# Altium integrated library FSC Logic Multivibrator.IntLib: 6 symbols
Pins are listed as number, name and electrical type; pins without a type are passive.

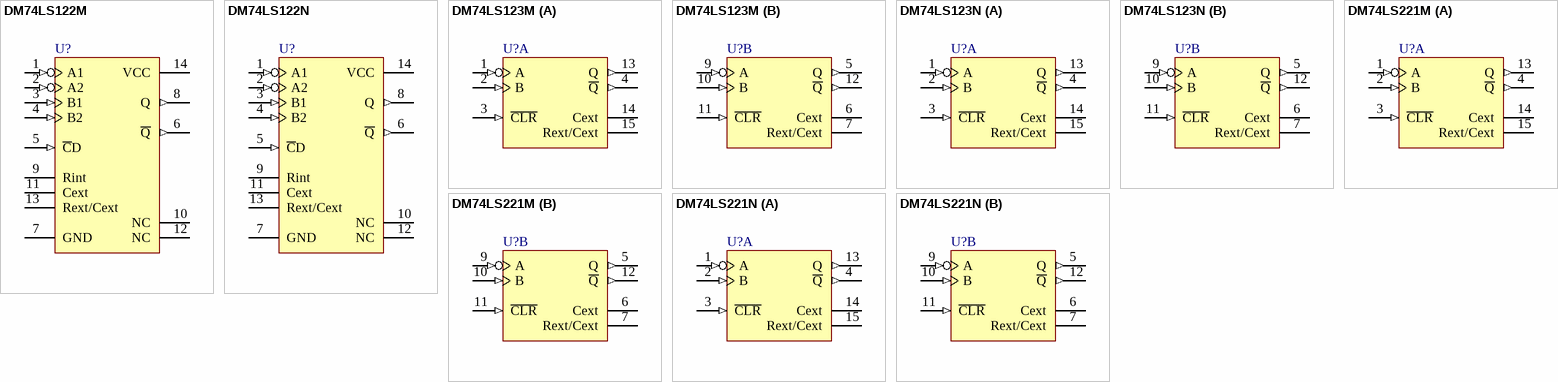
[diagram p0: symbols DM74LS122M to DM74LS221N]

## DM74LS122M
designator U?
Retriggerable One-Shot with Clear and Complementary Outputs; Published: 17-Jul-2002; LatestRevisionDate: 13-Apr-2006; LatestRevisionNote: IPC-7351 Footprint Added.; DatasheetVersion: Mar-1998; PackageVersion: 2000; PackageReference: M14A; Publisher: Altium Limited; PackageDescription: 14-Pin Small Outline Integrated Circuit 1.27 mm Pitch; Code_IPC: SOIC127P600-14; ComponentLink1Description: Manufacturer Link; ComponentLink1URL: http://www.fairchildsemi.com/
footprint M14A_N (SOIC, 14-Leads, Body 8.6x3.9mm, Pitch 1.27mm, IPC Medium Density)
footprint M14A_L (SOIC, 14-Leads, Body 8.6x3.9mm, Pitch 1.27mm, IPC High Density)
footprint M14A_M (SOIC, 14-Leads, Body 8.6x3.9mm, Pitch 1.27mm, IPC Low Density)
3D model M14A (14-Pin Small Outline Integrated Circuit 1.27 mm Pitch)
signal-integrity model DM74LS122M
pins: 1 A1 (in), 2 A2 (in), 3 B1 (in), 4 B2 (in), 5 ~{C}D (in), 6 ~{Q} (out), 7 GND (power), 8 Q (out), 9 Rint, 10 NC, 11 Cext, 12 NC, 13 Rext/Cext, 14 VCC (power)

## DM74LS122N
designator U?
Retriggerable One-Shot with Clear and Complementary Outputs; Published: 17-Jul-2002; LatestRevisionDate: 29-May-2009; LatestRevisionNote: Component Body Added.; DatasheetVersion: Mar-1998; PackageVersion: 2000; PackageReference: N14A; Publisher: Altium Limited; PackageDescription: DIP, 14-Pin, Row Spacing 7.62 mm, Pitch 2.54 mm; ComponentLink1Description: Manufacturer Link; ComponentLink1URL: http://www.fairchildsemi.com/
footprint N14A (DIP, 14-Leads, Row Spacing 7.62mm, Pitch 2.54mm, Body 19.18x6.35mm)
3D model N14A (DIP, 14-Pin, Row Spacing 7.62 mm, Pitch 2.54 mm)
signal-integrity model DM74LS122N
pins: 1 A1 (in), 2 A2 (in), 3 B1 (in), 4 B2 (in), 5 ~{C}D (in), 6 ~{Q} (out), 7 GND (power), 8 Q (out), 9 Rint, 10 NC, 11 Cext, 12 NC, 13 Rext/Cext, 14 VCC (power)

## DM74LS123M
designator U?
Dual Retriggerable One-Shot with Clear and Complementary Outputs; Published: 17-Jul-2002; LatestRevisionDate: 13-Apr-2006; LatestRevisionNote: IPC-7351 Footprint Added.; DatasheetVersion: Mar-1998; PackageVersion: 2000; PackageReference: M16A; Publisher: Altium Limited; PackageDescription: 16-Pin Small Outline Integrated Circuit 1.27 mm Pitch; Code_IPC: SOIC127P600-16; ComponentLink1Description: Manufacturer Link; ComponentLink1URL: http://www.fairchildsemi.com/
footprint M16A_N (SOIC, 16-Leads, Body 9.9x3.9mm, Pitch 1.27mm, IPC Medium Density)
footprint M16A_L (SOIC, 16-Leads, Body 9.9x3.9mm, Pitch 1.27mm, IPC High Density)
footprint M16A_M (SOIC, 16-Leads, Body 9.9x3.9mm, Pitch 1.27mm, IPC Low Density)
3D model M16A (16-Pin Small Outline Integrated Circuit 1.27 mm Pitch)
signal-integrity model DM74LS123M
pins on every part: 8 GND (power) hidden to GND, 16 VCC (power) hidden to VCC
part A pins: 1 A (in), 2 B (in), 3 ~{CLR} (in), 4 ~{Q} (out), 13 Q (out), 14 Cext, 15 Rext/Cext
part B pins: 5 Q (out), 6 Cext, 7 Rext/Cext, 9 A (in), 10 B (in), 11 ~{CLR} (in), 12 ~{Q} (out)

## DM74LS123N
designator U?
Dual Retriggerable One-Shot with Clear and Complementary Outputs; Published: 17-Jul-2002; LatestRevisionDate: 29-May-2009; LatestRevisionNote: Component Body Added.; DatasheetVersion: Mar-1998; PackageVersion: 2000; PackageReference: N16E; Publisher: Altium Limited; PackageDescription: DIP, 16-Pin, Row Spacing 7.62 mm, Pitch 2.54 mm; ComponentLink1Description: Manufacturer Link; ComponentLink1URL: http://www.fairchildsemi.com/
footprint N16E (DIP, 16-Leads, Row Spacing 7.62mm, Pitch 2.54mm, Body 19.3x6.35mm)
3D model N16E (DIP, 16-Pin, Row Spacing 7.62 mm, Pitch 2.54 mm)
signal-integrity model DM74LS123N
pins on every part: 8 GND (power) hidden to GND, 16 VCC (power) hidden to VCC
part A pins: 1 A (in), 2 B (in), 3 ~{CLR} (in), 4 ~{Q} (out), 13 Q (out), 14 Cext, 15 Rext/Cext
part B pins: 5 Q (out), 6 Cext, 7 Rext/Cext, 9 A (in), 10 B (in), 11 ~{CLR} (in), 12 ~{Q} (out)

## DM74LS221M
designator U?
Dual Non-Retriggerable One-Shot with Clear and Complementary Outputs; Published: 17-Jul-2002; LatestRevisionDate: 13-Apr-2006; LatestRevisionNote: IPC-7351 Footprint Added.; DatasheetVersion: Mar-1998; PackageVersion: 2000; PackageReference: M16A; Publisher: Altium Limited; PackageDescription: 16-Pin Small Outline Integrated Circuit 1.27 mm Pitch; Code_IPC: SOIC127P600-16; ComponentLink1Description: Manufacturer Link; ComponentLink1URL: http://www.fairchildsemi.com/
footprint M16A_N (SOIC, 16-Leads, Body 9.9x3.9mm, Pitch 1.27mm, IPC Medium Density)
footprint M16A_L (SOIC, 16-Leads, Body 9.9x3.9mm, Pitch 1.27mm, IPC High Density)
footprint M16A_M (SOIC, 16-Leads, Body 9.9x3.9mm, Pitch 1.27mm, IPC Low Density)
3D model M16A (16-Pin Small Outline Integrated Circuit 1.27 mm Pitch)
signal-integrity model DM74LS221M
pins on every part: 8 GND (power) hidden to GND, 16 VCC (power) hidden to VCC
part A pins: 1 A (in), 2 B (in), 3 ~{CLR} (in), 4 ~{Q} (out), 13 Q (out), 14 Cext, 15 Rext/Cext
part B pins: 5 Q (out), 6 Cext, 7 Rext/Cext, 9 A (in), 10 B (in), 11 ~{CLR} (in), 12 ~{Q} (out)

## DM74LS221N
designator U?
Dual Non-Retriggerable One-Shot with Clear and Complementary Outputs; Published: 17-Jul-2002; LatestRevisionDate: 29-May-2009; LatestRevisionNote: Component Body Added.; DatasheetVersion: Mar-1998; PackageVersion: 2000; PackageReference: N16E; Publisher: Altium Limited; PackageDescription: DIP, 16-Pin, Row Spacing 7.62 mm, Pitch 2.54 mm; ComponentLink1Description: Manufacturer Link; ComponentLink1URL: http://www.fairchildsemi.com/
footprint N16E (DIP, 16-Leads, Row Spacing 7.62mm, Pitch 2.54mm, Body 19.3x6.35mm)
3D model N16E (DIP, 16-Pin, Row Spacing 7.62 mm, Pitch 2.54 mm)
signal-integrity model DM74LS221N
pins on every part: 8 GND (power) hidden to GND, 16 VCC (power) hidden to VCC
part A pins: 1 A (in), 2 B (in), 3 ~{CLR} (in), 4 ~{Q} (out), 13 Q (out), 14 Cext, 15 Rext/Cext
part B pins: 5 Q (out), 6 Cext, 7 Rext/Cext, 9 A (in), 10 B (in), 11 ~{CLR} (in), 12 ~{Q} (out)